# EAGLE library part AS6C1008-55SIN (library RalimTek)
128K X 8bit SRAM http://www.farnell.com/datasheets/32783.pdf
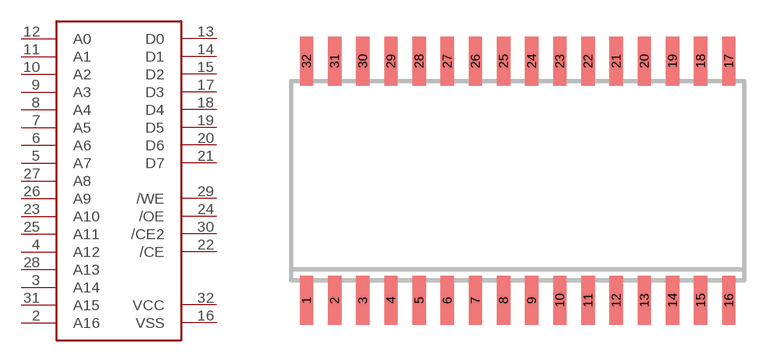
[diagram p1: symbol with the pads of SOP-32; footprint SOP-32]

Designator prefix -

## AS6C1008-55SIN  [SOP-32]
2  A16
3  A14
4  A12
5  A7
6  A6
7  A5
8  A4
9  A3
10  A2
11  A1
12  A0
13  D0
14  D1
15  D2
16  VSS
17  D3
18  D4
19  D5
20  D6
21  D7
22  /CE
23  A10
24  /OE
25  A11
26  A9
27  A8
28  A13
29  /WE
30  /CE2
31  A15
32  VCC

## Footprint SOP-32 (pad centres in mm)
smd 0.6 x 2.2: 1 -9.525,-5.4; 2 -8.255,-5.4; 3 -6.985,-5.4; 4 -5.715,-5.4; 5 -4.445,-5.4; 6 -3.175,-5.4; 7 -1.905,-5.4; 8 -0.635,-5.4; 9 0.635,-5.4; 10 1.905,-5.4; 11 3.175,-5.4; 12 4.445,-5.4; 13 5.715,-5.4; 14 6.985,-5.4; 15 8.255,-5.4; 16 9.525,-5.4; 17 9.525,5.4; 18 8.255,5.4; 19 6.985,5.4; 20 5.715,5.4; 21 4.445,5.4; 22 3.175,5.4; 23 1.905,5.4; 24 0.635,5.4; 25 -0.635,5.4; 26 -1.905,5.4; 27 -3.175,5.4; 28 -4.445,5.4; 29 -5.715,5.4; 30 -6.985,5.4; 31 -8.255,5.4; 32 -9.525,5.4